# EAGLE library part PSH04-07 (library #PaJa_konektory)
Konektory se zamkem - vidlice - 7pin, RM3,96mm
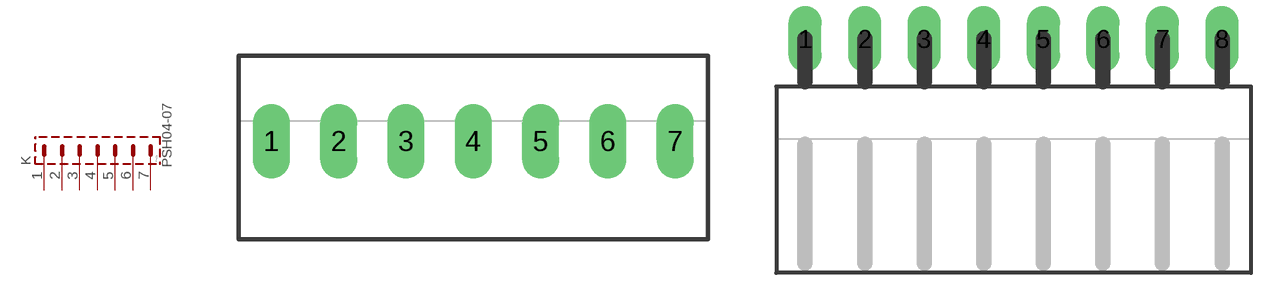
[diagram p15: symbol with the pads of PSH04-07P; footprints PSH04-07P, PSH04-08W]

Designator prefix K

## PSH04-07P  [PSH04-07P]
1  1  pas
2  2  pas
3  3  pas
4  4  pas
5  5  pas
6  6  pas
7  7  pas

## PSH04-07W  [PSH04-08W]
Pads as for PSH04-07P

## Footprint PSH04-07P (pad centres in mm)
drill 1.2 pad 2.184 long: 1 -11.887,0; 2 -7.925,0; 3 -3.962,0; 4 0,0; 5 3.962,0; 6 7.925,0; 7 11.887,0

## Footprint PSH04-08W (pad centres in mm)
drill 1.2 pad 2.184 long: 1 -13.868,0; 2 -9.906,0; 3 -5.944,0; 4 -1.981,0; 5 1.981,0; 6 5.944,0; 7 9.906,0; 8 13.868,0